# EAGLE library part ADG732BSUZ (library ADG732BSUZ)
Analog Multiplexer Single 32: 1 48-Pin TQFP T/R Check availability <https://pricing.snapeda.com/parts/ADG732BSUZ/Analog%20Devices/view-part?ref=eda>
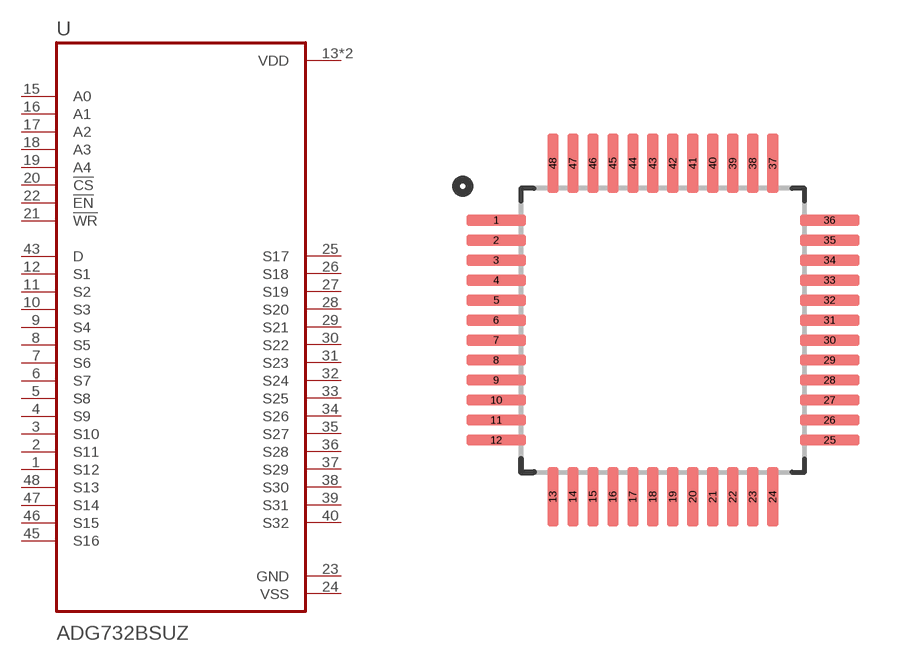
[diagram p0: symbol with the pads of QFP50P900X900X120-49N; footprint QFP50P900X900X120-49N]

Designator prefix U

## ADG732BSUZ (Availability: In Stock; Description: 32-Channel, 4 Ω 1.8 V to 5.5 V, ±2.5 V, Analog Multiplexer; MF: Analog Devices; MP: ADG732BSUZ; Package: TQFP -48 Analog Devices; Price: None; Purchase-URL: https://pricing.snapeda.com/search/part/ADG732BSUZ/?ref=eda)  [QFP50P900X900X120-49N]
1  S12
2  S11
3  S10
4  S9
5  S8
6  S7
7  S6
8  S5
9  S4
10  S3
11  S2
12  S1
13  VDD  pwr
14  VDD  pwr
15  A0  in
16  A1  in
17  A2  in
18  A3  in
19  A4  in
20  !CS  in
21  !WR  in
22  !EN  in
23  GND  pwr
24  VSS  pwr
25  S17
26  S18
27  S19
28  S20
29  S21
30  S22
31  S23
32  S24
33  S25
34  S26
35  S27
36  S28
37  S29
38  S30
39  S31
40  S32
43  D
45  S16
46  S15
47  S14
48  S13

## Footprint QFP50P900X900X120-49N (pad centres in mm)
smd 1.49 x 0.28: 1 -4.17,2.75; 2 -4.17,2.25; 3 -4.17,1.75; 4 -4.17,1.25; 5 -4.17,0.75; 6 -4.17,0.25; 7 -4.17,-0.25; 8 -4.17,-0.75; 9 -4.17,-1.25; 10 -4.17,-1.75; 11 -4.17,-2.25; 12 -4.17,-2.75; 25 4.17,-2.75; 26 4.17,-2.25; 27 4.17,-1.75; 28 4.17,-1.25; 29 4.17,-0.75; 30 4.17,-0.25; 31 4.17,0.25; 32 4.17,0.75; 33 4.17,1.25; 34 4.17,1.75; 35 4.17,2.25; 36 4.17,2.75
smd 0.28 x 1.49: 13 -2.75,-4.17; 14 -2.25,-4.17; 15 -1.75,-4.17; 16 -1.25,-4.17; 17 -0.75,-4.17; 18 -0.25,-4.17; 19 0.25,-4.17; 20 0.75,-4.17; 21 1.25,-4.17; 22 1.75,-4.17; 23 2.25,-4.17; 24 2.75,-4.17; 37 2.75,4.17; 38 2.25,4.17; 39 1.75,4.17; 40 1.25,4.17; 41 0.75,4.17; 42 0.25,4.17; 43 -0.25,4.17; 44 -0.75,4.17; 45 -1.25,4.17; 46 -1.75,4.17; 47 -2.25,4.17; 48 -2.75,4.17